# Altium footprint library 10103594-0001LF.PcbLib: 1 footprints
Each footprint in its own frame and in the unit in brackets; x right, y up, seen from the top. Pads: shape width x height; smd on the part's side, far side on the other; paste and mask are expansions set on the pad; w line width, h text height; cw(c..) or ccw(c..) is an arc to the next point about the centre after c.
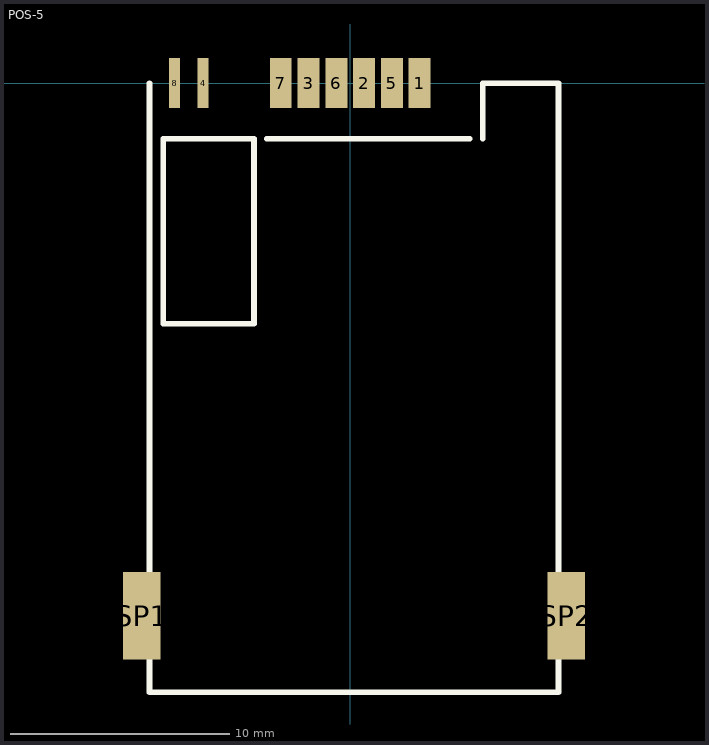
[diagram p0: the footprint, top view; thin cyan lines are the x and y axes]

## POS-5 [mm]
pads (10):
  rect 1x2.3 smd paste-25.4 mask-25.4: 1(3.175,0) 2(0.635,0) 3(-1.905,0) 5(1.905,0) 6(-0.635,0) 7(-3.175,0)
  rect 0.5x2.3 smd paste-25.4 mask-25.4: 4(-6.73,0) 8(-8.03,0)
  rect 1.7x4 smd paste-25.4 mask-25.4: SP1(-9.527,-24.35) SP2(9.873,-24.35)
Top Overlay:
  lines w0.254: -9.177,0 -9.177,-27.85 9.523,-27.85 9.523,0 ; -3.81,-2.54 5.461,-2.54 ; 6.063,-2.54 6.063,0 9.492,0 ; -8.542,-11 -8.542,-2.54 -4.4,-2.54 -4.4,-11 -8.542,-11
Top Paste:
  rectangle: 8.992,-26.391 10.77,-22.301
  region: -2.659,-1.021 -2.659,0.729 -3.059,0.729 -3.059,-1.021
  region: -3.309,-1.021 -3.309,0.729 -3.709,0.729 -3.709,-1.021
  region: 3.708,-1.194 3.708,1.194 2.642,1.194 2.642,-1.194
  region: 1.168,1.194 0.102,1.194 0.102,-1.194 1.168,-1.194
  region: 2.438,-1.194 2.438,1.168 1.372,1.168 1.372,-1.194
  region: -0.102,1.168 -1.168,1.168 -1.168,-1.168 -0.102,-1.168
  region: -1.372,-1.168 -1.372,1.168 -2.438,1.168 -2.438,-1.168
  region: -2.642,-1.168 -2.642,1.168 -3.708,1.168 -3.708,-1.168
  region: -8.611,-26.391 -8.611,-22.327 -10.439,-22.327 -10.439,-26.391
  region: -6.452,-1.168 -6.452,1.168 -7.01,1.168 -7.01,-1.168
  region: -7.747,1.194 -8.306,1.194 -8.306,-1.194 -7.747,-1.194
Top Solder:
  region: 1.219,-1.245 1.219,1.229 0.06,1.229 0.06,-1.245
  region: -0.051,-1.219 -0.051,1.219 -1.21,1.219 -1.21,-1.219
  region: -1.346,-1.219 -1.346,1.229 -2.48,1.229 -2.48,-1.219
  region: -2.616,-1.219 -2.616,1.219 -3.734,1.219 -3.734,-1.219
  region: -6.401,-1.219 -6.401,1.219 -7.061,1.219 -7.061,-1.219
  region: 1.321,1.219 1.321,-1.245 2.489,-1.245 2.489,1.219
  region: 3.759,-1.245 3.759,1.245 2.589,1.245 2.589,-1.245
  region: 10.82,-26.441 10.82,-22.25 8.941,-22.25 8.941,-26.441
  region: -8.56,-26.467 -8.56,-22.25 -10.49,-22.25 -10.49,-26.467
  region: -7.696,1.245 -8.357,1.245 -8.357,-1.245 -7.696,-1.245